# EAGLE library part GTPA010 (library 23K_candrian)
GPS MODULE
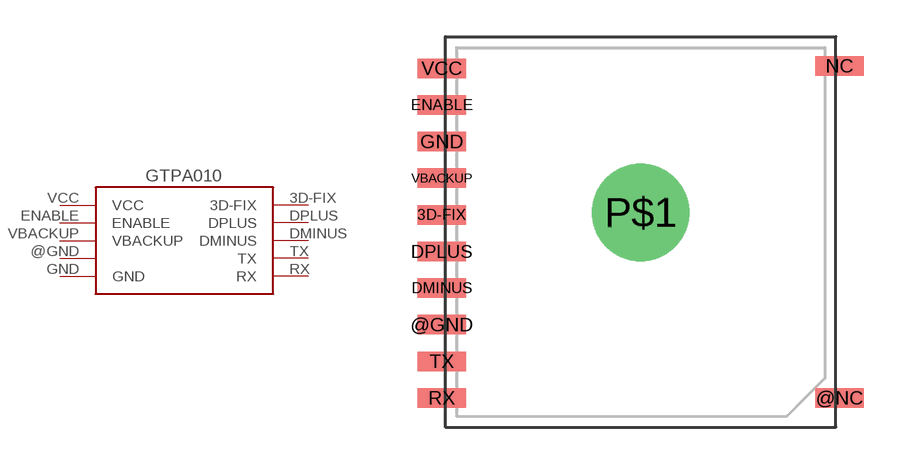
[diagram p19: symbol with the pads of GTPA010; footprint GTPA010]

Designator prefix IC

## GTPA010  [GTPA010]
3D-FIX  3D-FIX
@GND
DMINUS  DMINUS
DPLUS  DPLUS
ENABLE  ENABLE
GND  GND
RX  RX
TX  TX
VBACKUP  VBACKUP
VCC  VCC

## Footprint GTPA010 (pad centres in mm)
smd 2 x 0.8: 3D-FIX -8.15,0.7; @GND -8.15,-3.8; @NC 8.15,-6.8; DMINUS -8.15,-2.3; DPLUS -8.15,-0.8; ENABLE -8.15,5.2; GND -8.15,3.7; NC 8.15,6.8; RX -8.15,-6.8; TX -8.15,-5.3; VBACKUP -8.15,2.2; VCC -8.15,6.7
drill 2.5 pad 4: P$1 0,0.8